# Altium schematic symbol library d203.SCHLIB: 175 symbols (part 3 of 6)
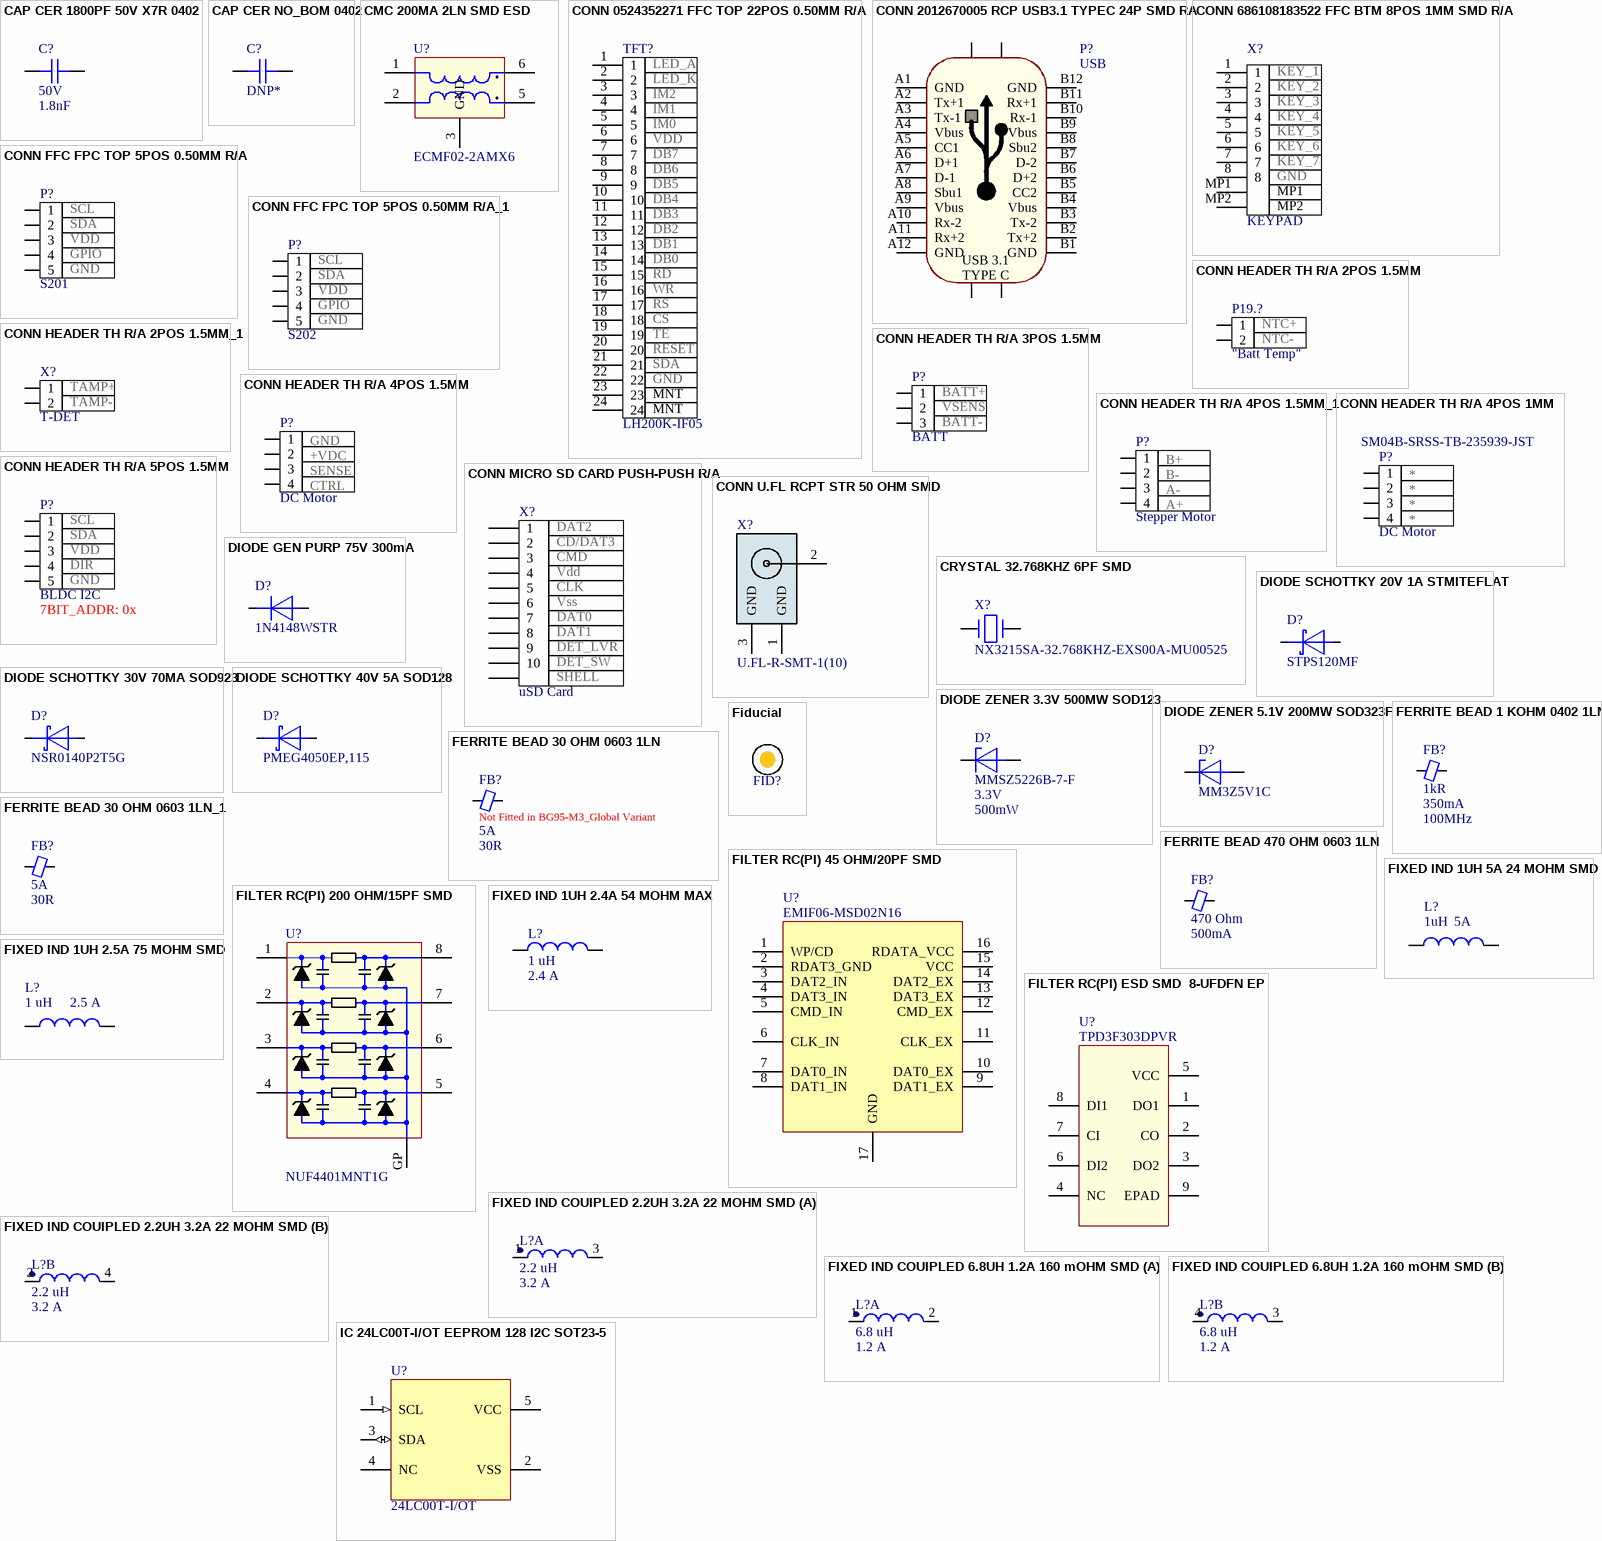
[diagram p7: symbols CAP CER 1800PF 50V X7R 0402 to IC 24LC00T-I/OT EEPROM 128 I2C SOT23-5]

## DIODE SCHOTTKY 40V 5A SOD128
designator D?, comment PMEG4050EP,115
Diode Schottky 40V 5A Surface Mount CFP5; Manufacturer: Nexperia; Type: Schottky Diode; Ir - Reverse Current: 300 uA; Qualification: AEC-Q101; Vf - Forward Voltage: 0.49 V; Configuration: Single; Ifsm - Forward Surge Current: 70 A; Supplier 1: Mouser; Manufacturer Part Number: PMEG4050EP,115; Stock 1: 39277; Pricing 1: 1=0.470, 10=0.346, 100=0.216, 1000=0.147, 3000=0.129, 9000=0.116, 24000=0.114, 45000=0.107, 99000=0.104 (USD); ComponentLink1URL: https://www.mouser.com/datasheet/2/916/PMEG4050EP-1320387.pdf; ComponentLink1Description: https://www.mouser.com/datasheet/2/916/PMEG4050EP-1320387.pdf; Supplier Part Number 1: 771-PMEG4050EP115; RoHS: RoHS Compliant; Category: Schottky Diodes & Rectifiers; Height: 1.1 mm; Length: 4 mm; Package / Case: SOD-128-2; Packaging: Cut Tape; Product: Schottky Diodes; Width: 2.7 mm; Brand: Nexperia; Mounting Style: SMD/SMT; If - Forward Current: 5 A; Maximum Operating Temperature: + 150 C; Minimum Operating Temperature: - 55 C; Product Type: Schottky Diodes & Rectifiers; Standard Pack Qty: 3000; Subcategory: Diodes & Rectifiers; RoHS - Mouser: Y; Minimum Order Quantity: 1; Reeling: True; Operating Temperature Range: + 150 C; Technology: Si; Vrrm - Repetitive Reverse Voltage: 40 V; Mount: Surface Mount
footprint SOD-128
pins: 1 K, 2 A

## DIODE ZENER 3.3V 500MW SOD123
designator D?, comment MMSZ5226B-7-F  Working Voltage: 3.3V  Power Rating: 500mW
Zener Diode ±5% Surface Mount SOD-123; Manufacturer: Diodes; Forward Voltage: 900mV; Impedance: 28R; Max Reverse Leakage Current: 25uA; Test Current: 20mA; Element Configuration: Single; Supplier 1: Digi-Key; Manufacturer Part Number: MMSZ5226B-7-F; Stock 1: 63613; Pricing 1: 1=0.19, 10=0.164, 100=0.063, 500=0.046, 1000=0.0309 (USD); Mount: Surface Mount; Number of Pins: 2; Weight: 0.000353oz; Min Operating Temperature: -65°C; Max Operating Temperature: 150°C; Packaging: Tape and Reel; Package Quantity: 3000; Tolerance: 5%; Max Power Dissipation: 500mW; Zener Voltage: 3.3V; Voltage Tolerance: 5%; Power Dissipation: 500mW; Length: 3.85mm; Height: 1.35mm; Width: 1.7mm; Radiation Hardening: No; Lead Free: Lead Free; ComponentLink1URL: http://www.diodes.com/datasheets/ds18010.pdf?src-supplier=Avnet+Europe; ComponentLink1Description: http://www.diodes.com/datasheets/ds18010.pdf?src-supplier=Avnet+Europe; Supplier Part Number 1: MMSZ5226B-FDICT-ND; Case/Package: SOD-123-2; Zener Current: 25uA; Max Reverse Current: 25uA; Termination: SMD/SMT; Voltage Rating (DC): 3.3V
footprint SOD-123
pins: 1 K, 2 A

## DIODE ZENER 5.1V 200MW SOD323F
designator D?, comment MM3Z5V1C
Zener Diode 5.1V 200mW ±5% Surface Mount SOD-323F; Manufacturer: ON Semiconductor / Fairchild; Impedance: 56R; Max Reverse Leakage Current: 1.8uA; Test Current: 5mA; Element Configuration: Single; Supplier 1: Digi-Key; Manufacturer Part Number: MM3Z5V1C; Stock 1: 27359; Pricing 1: 1=0.2, 10=0.167, 25=0.1396, 100=0.0682, 500=0.0569, 1000=0.0395 (USD); Mount: Surface Mount; Number of Pins: 2; Weight: 0.0276g; Min Operating Temperature: -65°C; Max Operating Temperature: 150°C; Packaging: Tape and Reel; Package Quantity: 1; Tolerance: 5%; Max Power Dissipation: 200mW; Zener Voltage: 5.1V; Voltage Tolerance: 5%; Power Dissipation: 200mW; Length: 1.3mm; Height: 1mm; Width: 1.7mm; Radiation Hardening: No; REACH SVHC: No SVHC; Lead Free: Lead Free; ComponentLink1URL: http://www.fairchildsemi.com/datasheets/MM/MM3Z10VC.pdf?src-supplier=Digi-Key; ComponentLink1Description: http://www.fairchildsemi.com/datasheets/MM/MM3Z10VC.pdf?src-supplier=Digi-Key; ComponentLink2URL: http://www.onsemi.com/pub/Collateral/MM3Z9V1C-D.pdf?src-supplier=Digi-Key; ComponentLink2Description: http://www.onsemi.com/pub/Collateral/MM3Z9V1C-D.pdf?src-supplier=Digi-Key; ComponentLink3URL: http://www.mouser.com/ds/2/149/MM3Z5V1C-195780.pdf?src-supplier=Mouser; ComponentLink3Description: http://www.mouser.com/ds/2/149/MM3Z5V1C-195780.pdf?src-supplier=Mouser; ComponentLink4URL: http://www.fairchildsemi.com/ds/MM/MM3Z9V1C.pdf?src-supplier=Avnet; ComponentLink4Description: http://www.fairchildsemi.com/ds/MM/MM3Z9V1C.pdf?src-supplier=Avnet; Supplier Part Number 1: MM3Z5V1CCT-ND
footprint SOD-323F
pins: 1 K, 2 A

## FERRITE BEAD 1 KOHM 0402 1LN
designator FB?  Impedance: 1kR  Max DC Current: 350mA  Test Frequency: 100MHz  (hidden comment: FERRITE BEAD 1 KOHM 0402 1LN)
1 kOhms @ 100MHz 1  Ferrite Bead 0402 (1005 Metric) 350mA 490mOhm; Manufacturer: Murata; Manufacturer Part Number: BLM15AX102SN1D; Material: Ferrite,Steel; Tolerance: 25%; Number of Lines: 1; DC Resistance (DCR): 490mR; Supplier 1: Digi-Key; Stock 1: 138597; Pricing 1: 1=0.11, 10=0.09, 25=0.0812, 50=0.0596, 100=0.0514, 250=0.0406, 500=0.0343, 1000=0.0289, 5000=0.0257 (USD); Case/Package: 0402; Number of Pins: 2; Case Code (Metric): 1005; Case Code (Imperial): 0402; Min Operating Temperature: -55°C; Max Operating Temperature: 125°C; Package Quantity: 1; Packaging: Tape and Reel; Current Rating: 350mA; Max Current Rating: 350mA; Termination: SMD/SMT; Number of Circuits: 1; Length: 1mm; Height: 0.5mm; Width: 0.5mm; Depth: 0.5mm; REACH SVHC: No SVHC; Lead Free: Lead Free; ComponentLink1URL: https://www.murata.com/en-us/products/productdata/8796740059166/ENFA0018.pdf?src-supplier=Digi-Key; ComponentLink1Description: https://www.murata.com/en-us/products/productdata/8796740059166/ENFA0018.pdf?src-supplier=Digi-Key; ComponentLink2URL: http://search.murata.co.jp/Ceramy/image/img/PDF/ENG/L0110S0100BLM15AX_SN.pdf?src-supplier=Future+Electronics; ComponentLink2Description: http://search.murata.co.jp/Ceramy/image/img/PDF/ENG/L0110S0100BLM15AX_SN.pdf?src-supplier=Future+Electronics; ComponentLink3URL: http://www.produktinfo.conrad.com/datenblaetter/1100000-1199999/001171674-da-01-en-CHIP_DROSSEL0402_1000R_350MA_1_0X0_5MM.pdf?src-supplier=Conrad; ComponentLink3Description: http://www.produktinfo.conrad.com/datenblaetter/1100000-1199999/001171674-da-01-en-CHIP_DROSSEL0402_1000R_350MA_1_0X0_5MM.pdf?src-supplier=Conrad; ComponentLink4URL: http://www.produktinfo.conrad.com/datenblaetter/1100000-1199999/001172166-da-01-en-DROSSEL_0402_1000R_31_0X0_5MM_10000ST.pdf?src-supplier=Conrad; ComponentLink4Description: http://www.produktinfo.conrad.com/datenblaetter/1100000-1199999/001172166-da-01-en-DROSSEL_0402_1000R_31_0X0_5MM_10000ST.pdf?src-supplier=Conrad; Supplier Part Number 1: 490-5442-1-ND; Mount: Surface Mount
footprint L_0402
footprint L0402
pins: 1, 2

## FERRITE BEAD 30 OHM 0603 1LN
designator FB?, comment Not Fitted in BG95-M3_Global Variant  Current Rating: 5A  Impedance: 30R
30 Ohms @ 100MHz 1 Power Line Ferrite Bead 0603 (1608 Metric) 5A 10mOhm; Manufacturer: TDK; Manufacturer Part Number: MPZ1608S300ATAH0; Tolerance: 25%; DC Resistance (DCR): 10mR; Supplier 1: Digi-Key; Stock 1: 93167; Pricing 1: 1=0.1, 10=0.079, 25=0.0716, 50=0.0644, 100=0.0472, 250=0.0343, 500=0.0315, 1000=0.0272 (USD); Case/Package: 0603; Case Code (Metric): 1608; Case Code (Imperial): 0603; Min Operating Temperature: -55°C; Max Operating Temperature: 125°C; Package Quantity: 4000; Packaging: Tape and Reel; Termination: SMD/SMT; Length: 0.063inch; Height: 0.6mm; Width: 0.031inch; Depth: 0.8mm; REACH SVHC: No SVHC; Lead Free: Lead Free; ComponentLink1URL: https://media.digikey.com/pdf/Data%20Sheets/TDK%20PDFs/MPZ_Series_Br.pdf?src-supplier=Digi-Key; ComponentLink1Description: https://media.digikey.com/pdf/Data%20Sheets/TDK%20PDFs/MPZ_Series_Br.pdf?src-supplier=Digi-Key; ComponentLink2URL: http://www.farnell.com/datasheets/1795297.pdf?src-supplier=Element14; ComponentLink2Description: http://www.farnell.com/datasheets/1795297.pdf?src-supplier=Element14; Supplier Part Number 1: 445-1562-6-ND; Max DC Current: 5A; Test Frequency: 100MHz; Revision: July-2002: Re-released for DXP Platform.; Mount: Surface Mount; Weight: 7.1E-05oz; Core Material: Ferrite
footprint 0603L
footprint L0603
pins: 1, 2

## FERRITE BEAD 30 OHM 0603 1LN_1
designator FB?, comment Current Rating: 5A  Impedance: 30R  (hidden comment: MPZ1608S300ATAH0)
30 Ohms @ 100MHz 1 Power Line Ferrite Bead 0603 (1608 Metric) 5A 10mOhm; Manufacturer: TDK; Tolerance: 25%; DC Resistance (DCR): 10mR; Supplier 1: Digi-Key; Manufacturer Part Number: MPZ1608S300ATAH0; Stock 1: 93167; Pricing 1: 1=0.1, 10=0.079, 25=0.0716, 50=0.0644, 100=0.0472, 250=0.0343, 500=0.0315, 1000=0.0272 (USD); Case/Package: 0603; Case Code (Metric): 1608; Case Code (Imperial): 0603; Min Operating Temperature: -55°C; Max Operating Temperature: 125°C; Package Quantity: 4000; Packaging: Tape and Reel; Termination: SMD/SMT; Length: 0.063inch; Height: 0.6mm; Width: 0.031inch; Depth: 0.8mm; REACH SVHC: No SVHC; Lead Free: Lead Free; ComponentLink1URL: https://media.digikey.com/pdf/Data%20Sheets/TDK%20PDFs/MPZ_Series_Br.pdf?src-supplier=Digi-Key; ComponentLink1Description: https://media.digikey.com/pdf/Data%20Sheets/TDK%20PDFs/MPZ_Series_Br.pdf?src-supplier=Digi-Key; ComponentLink2URL: http://www.farnell.com/datasheets/1795297.pdf?src-supplier=Element14; ComponentLink2Description: http://www.farnell.com/datasheets/1795297.pdf?src-supplier=Element14; Supplier Part Number 1: 445-1562-6-ND; Max DC Current: 5A; Test Frequency: 100MHz; Revision: July-2002: Re-released for DXP Platform.; Mount: Surface Mount; Weight: 7.1E-05oz; Core Material: Ferrite; ClassName: P109
footprint 0603L
footprint L0603
pins: 1, 2

## FERRITE BEAD 470 OHM 0603 1LN
designator FB?  Impedance: 470 Ohm  Current Rating: 500mA  (hidden comment: FERRITE BEAD 470 OHM 0603 1LN)
470 Ohms @ 100MHz 1  Ferrite Bead 0603 (1608 Metric) 500mA 210mOhm; Manufacturer: Murata; Manufacturer Part Number: BLM18EG471SN1D; Material: Ferrite,Steel; Tolerance: 25%; DC Resistance (DCR): 210mR; Number of Lines: 1; Supplier 1: Digi-Key; Stock 1: 4285; Pricing 1: 1=0.23, 10=0.175, 25=0.1452, 50=0.1252, 100=0.1126, 250=0.0951, 500=0.0851, 1000=0.0726 (USD); Case/Package: 0603; Number of Pins: 2; Weight: 7.1E-05oz; Core Material: Ferrite; Case Code (Metric): 1608; Case Code (Imperial): 0603; Min Operating Temperature: -55°C; Max Operating Temperature: 125°C; Max DC Current: 500mA; Resistance: 210mR; Package Quantity: 1; Packaging: Tape and Reel; Max Current Rating: 500mA; Termination: SMD/SMT; Test Frequency: 100MHz; DC Current: 500mA; Military Standard: Not; Frequency: 100MHz; Number of Circuits: 1; Length: 1.6mm; Height: 0.8mm; Width: 0.8mm; Depth: 0.8mm; Radiation Hardening: No; REACH SVHC: No SVHC; Lead Free: Lead Free; ComponentLink1URL: http://uk.rs-online.com/webdocs/11b5/0900766b811b5866.pdf?src-supplier=RSComponents; ComponentLink1Description: http://uk.rs-online.com/webdocs/11b5/0900766b811b5866.pdf?src-supplier=RSComponents; ComponentLink2URL: http://www.farnell.com/datasheets/5169.pdf?src-supplier=Element14; ComponentLink2Description: http://www.farnell.com/datasheets/5169.pdf?src-supplier=Element14; ComponentLink3URL: https://www.murata.com/en-global/products/productdata/8796733767710/S0580E.pdf?src-supplier=Digi-Key; ComponentLink3Description: https://www.murata.com/en-global/products/productdata/8796733767710/S0580E.pdf?src-supplier=Digi-Key; ComponentLink4URL: https://www.distrelec.biz/Web/Downloads/_t/ds/blm-series_eng_tds.pdf?mime=application%2Fpdf&src-supplier=Distrelec; ComponentLink4Description: https://www.distrelec.biz/Web/Downloads/_t/ds/blm-series_eng_tds.pdf?mime=application%2Fpdf&src-supplier=Distrelec; ComponentLink5URL: https://www.verical.com/server-webapp/html/getDatasheet?partID=228865&src-supplier=Verical; ComponentLink5Description: https://www.verical.com/server-webapp/html/getDatasheet?partID=228865&src-supplier=Verical; ComponentLink6URL: http://search.murata.co.jp/Ceramy/image/img/PDF/ENG/L0110S0101BLM18E.pdf?src-supplier=Avnet; ComponentLink6Description: http://search.murata.co.jp/Ceramy/image/img/PDF/ENG/L0110S0101BLM18E.pdf?src-supplier=Avnet; ComponentLink7URL: http://www.produktinfo.conrad.com/datenblaetter/1100000-1199999/001171700-da-01-en-CHIP_DROSSEL0603_470R_500MA_1_6X0_8MM.pdf?src-supplier=Conrad; ComponentLink7Description: http://www.produktinfo.conrad.com/datenblaetter/1100000-1199999/001171700-da-01-en-CHIP_DROSSEL0603_470R_500MA_1_6X0_8MM.pdf?src-supplier=Conrad; ComponentLink8URL: http://www.produktinfo.conrad.com/datenblaetter/1100000-1199999/001172269-da-01-en-DROSSEL_0603_470R_1_6X0_8MM_4000ST.pdf?src-supplier=Conrad; ComponentLink8Description: http://www.produktinfo.conrad.com/datenblaetter/1100000-1199999/001172269-da-01-en-DROSSEL_0603_470R_1_6X0_8MM_4000ST.pdf?src-supplier=Conrad; Supplier Part Number 1: 490-3993-6-ND; Mount: Surface Mount
footprint L0603
pins: 1, 2

## Fiducial
designator FID?, comment N/A  (value not drawn)  (no BOM)
Fiducial mark.  There is nothing to buy or mount.; ClassName: FiducialMark; CompType: Fiducial; Manufacturer: N/A; MountType: N/A; PackageReference: Fiducial; Manufacturer Part Number: N/A
footprint Fiducial
footprint FIDUCIAL_SMALL

## FILTER RC(PI) 45 OHM/20PF SMD
designator U?, comment EMIF06-MSD02N16
RC (Pi) EMI Filter 2nd Order Low Pass 6 Channel R = 45Ohms, C = 20pF (Total)  16-UFDFN Exposed Pad; Manufacturer: STMicroelectronics; Number of Channels: 6; ESD Protection: Yes; Breakdown Voltage: 8V; Supplier 1: Digi-Key; Manufacturer Part Number: EMIF06-MSD02N16; Stock 1: 3881; Pricing 1: 1=0.95, 10=0.904, 25=0.8752, 50=0.7148, 100=0.6418, 250=0.5834, 500=0.5543, 1000=0.4959 (USD); Mount: Surface Mount; Case/Package: QFN; Number of Pins: 16; Contact Plating: Gold; Min Operating Temperature: -30°C; Max Operating Temperature: 85°C; Termination: Flat; Packaging: Tape and Reel; Package Quantity: 1; Capacitance: 20pF; Max Breakdown Voltage: 8V; Length: 3.55mm; Height: 0.022inch; Width: 0.047inch; Depth: 1.25mm; Radiation Hardening: No; Lead Free: Lead Free; REACH SVHC: No SVHC; ComponentLink1URL: http://www.st.com/content/ccc/resource/technical/document/datasheet/a7/86/d3/98/2c/7f/4b/d2/CD00217829.pdf/files/CD00217829.pdf/jcr:content/translations/en.CD00217829.pdf?src-supplier=Digi-Key; ComponentLink1Description: http://www.st.com/content/ccc/resource/technical/document/datasheet/a7/86/d3/98/2c/7f/4b/d2/CD00217829.pdf/files/CD00217829.pdf/jcr:content/translations/en.CD00217829.pdf?src-supplier=Digi-Key; ComponentLink2URL: https://www.verical.com/server-webapp/html/getDatasheet?partID=558558&src-supplier=Verical; ComponentLink2Description: https://www.verical.com/server-webapp/html/getDatasheet?partID=558558&src-supplier=Verical; ComponentLink3URL: http://www.st.com/web/en/resource/technical/document/datasheet/CD00217829.pdf?src-supplier=Mouser; ComponentLink3Description: http://www.st.com/web/en/resource/technical/document/datasheet/CD00217829.pdf?src-supplier=Mouser; Supplier Part Number 1: 497-8751-1-ND
footprint QFN 3.5x1.2-16L (Micro QFN 3.5x1.2-16L footprint)
pins: 1 WP/CD, 2 RDAT3_GND, 3 DAT2_IN, 4 DAT3_IN, 5 CMD_IN, 6 CLK_IN, 7 DAT0_IN, 8 DAT1_IN, 9 DAT1_EX, 10 DAT0_EX, 11 CLK_EX, 12 CMD_EX, 13 DAT3_EX, 14 DAT2_EX, 15 VCC (power), 16 RDATA_VCC (power), 17 GND (power)

## FILTER RC(PI) 200 OHM/15PF SMD
designator U?, comment NUF4401MNT1G
EMI filter w/ ESD prot. NUF4401MN 12mm r; Manufacturer: ON Semiconductor; Number of Channels: 4; Frequency: 2.4GHz; Capacitance: 15pF; Number of Elements: 8; Resistance: 200R; Attenuation Value: 35dB; ESD Protection: Yes; Max DC Current: 100nA; DC Resistance (DCR): 230R; Test Frequency: 125MHz; Shielding: Unshielded; Supplier 1: Digi-Key; Manufacturer Part Number: NUF4401MNT1G; Stock 1: 2896; Pricing 1: 1=0.49, 10=0.45, 25=0.4296, 50=0.4158, 100=0.4019, 250=0.3812, 500=0.3188, 1000=0.2474 (USD); Case/Package: DFN; Min Operating Temperature: -40°C; Max Operating Temperature: 85°C; Packaging: Tape and Reel; ComponentLink1URL: http://www.onsemi.com/pub/Collateral/NUF4401MN-D.PDF?src-supplier=Digi-Key; ComponentLink1Description: http://www.onsemi.com/pub/Collateral/NUF4401MN-D.PDF?src-supplier=Digi-Key; ComponentLink2URL: http://www.onsemi.com/pub/Collateral/NUF4401MN-D.PDF?src-supplier=Avnet; ComponentLink2Description: http://www.onsemi.com/pub/Collateral/NUF4401MN-D.PDF?src-supplier=Avnet; ComponentLink3URL: http://www.onsemi.com/pub_link/Collateral/NUF4401MN-D.PDF?src-supplier=Avnet+Europe; ComponentLink3Description: http://www.onsemi.com/pub_link/Collateral/NUF4401MN-D.PDF?src-supplier=Avnet+Europe; ComponentLink4URL: http://www.mouser.com/ds/2/308/NUF4401MN-D-100381.pdf?src-supplier=Mouser; ComponentLink4Description: http://www.mouser.com/ds/2/308/NUF4401MN-D-100381.pdf?src-supplier=Mouser; Supplier Part Number 1: 488-NUF4401MNT1GCT-ND; Number of Pins: 8; Contact Plating: Tin,Matte; Package Quantity: 1; Circuit Type: Filter; Termination: Flat; Number of Lines: 4; Length: 2mm; Height: 1mm; Width: 0.079inch; Depth: 2mm; Radiation Hardening: No; Lead Free: Lead Free; Halogen Free: Halogen Free; Mount: Surface Mount
footprint DFN8 (DFN8 2x2, 0.5P CASE 506AQ)
pins: 1 INP1, 2 INP2, 3 INP3, 4 INP4, 5 OUT4, 6 OUT3, 7 OUT2, 8 OUT1, GP GND

## FILTER RC(PI) ESD SMD  8-UFDFN EP
designator U?, comment TPD3F303DPVR
RC (Pi) EMI Filter 2nd Order Low Pass 3 Channel R = 47Ohms, 100Ohms, C = 20pF  8-UFDFN Exposed Pad; Manufacturer: Texas Instruments; Number of Channels: 3; Frequency: 308MHz; ESD Protection: Yes; Operating Supply Voltage: 5.5V; Clamping Voltage: 10V; Supplier 1: Digi-Key; Manufacturer Part Number: TPD3F303DPVR; Stock 1: 4896; Pricing 1: 1=0.85, 10=0.812, 25=0.7856, 50=0.6414, 100=0.576, 250=0.5236, 500=0.4974, 1000=0.4451 (USD); Case/Package: SMD/SMT; Min Operating Temperature: -40°C; Max Operating Temperature: 85°C; Packaging: Tape and Reel; ComponentLink1URL: http://www.ti.com/lit/ds/symlink/tpd3f303.pdf?src-supplier=Digi-Key; ComponentLink1Description: http://www.ti.com/lit/ds/symlink/tpd3f303.pdf?src-supplier=Digi-Key; ComponentLink2URL: http://focus.ti.com/lit/ds/symlink/tpd3f303.pdf?src-supplier=Avnet+Europe; ComponentLink2Description: http://focus.ti.com/lit/ds/symlink/tpd3f303.pdf?src-supplier=Avnet+Europe; ComponentLink3URL: https://www.verical.com/server-webapp/html/getDatasheet?partID=302817&src-supplier=Verical; ComponentLink3Description: https://www.verical.com/server-webapp/html/getDatasheet?partID=302817&src-supplier=Verical; ComponentLink4URL: http://www.farnell.com/datasheets/1558442.pdf?src-supplier=Element14; ComponentLink4Description: http://www.farnell.com/datasheets/1558442.pdf?src-supplier=Element14; Supplier Part Number 1: 296-28299-1-ND; Number of Pins: 8; Contact Plating: Gold; Package Quantity: 1; Capacitance: 20pF; Termination: Flat; Length: 2.2mm; Height: 0.026inch; Width: 0.063inch; Depth: 1.7mm; Radiation Hardening: No; Lead Free: Lead Free; REACH SVHC: No SVHC; Mount: Surface Mount
footprint DPV8_1P7X0P4
pins: 1 DO1, 2 CO, 3 DO2, 4 NC, 5 VCC (power), 6 DI2, 7 CI, 8 DI1, 9 EPAD

## FIXED IND 1UH 2.4A 54 MOHM MAX
designator L?  Inductance: 1 uH  Maximum DC Current: 2.4 A  (hidden comment: FIXED IND 1UH 2.4A 54 MOHM MAX)
1µH Semi-Shielded Wirewound Inductor 2.4A 54mOhm Max Nonstandard; Manufacturer: Wurth Elektronik; Manufacturer Part Number: 74405031010; Maximum DC Resistance: 54 mOhms; Self Resonant Frequency: 66 MHz; Tolerance: 20 %; Saturation Current: 5.4 A; Test Frequency: 1 MHz; Supplier 1: Mouser; RoHS: RoHS Compliant; Category: Fixed Inductors; Stock 1: 2000; Pricing 1: 1=0.730, 10=0.721, 50=0.601, 100=0.457, 1000=0.397, 2000=0.385 (USD); Application: Power; Height: 1.2 mm; Length: 3 mm; Package / Case: 3 mm x 3 mm; Packaging: Cut Tape; Product: Fixed Inductors; Series: WE-LQSH; Shielding: Shielded; Termination Style: SMD/SMT; Width: 3 mm; Brand: Wurth Elektronik; Mounting Style: PCB Mount; Maximum Operating Temperature: + 125 C; Minimum Operating Temperature: - 40 C; Product Type: Fixed Inductors; Standard Pack Qty: 2000; Subcategory: Inductors, Chokes & Coils; Termination: -; RoHS - Mouser: Y; Minimum Order Quantity: 1; Reeling: True; ComponentLink1URL: https://www.mouser.com/datasheet/2/445/74405031010-1720907.pdf; ComponentLink1Description: https://www.mouser.com/datasheet/2/445/74405031010-1720907.pdf; Supplier 2: Digi-Key; Supplier Part Number 1: 710-74405031010; Supplier Part Number 2: 732-10780-1-ND; Mount: Surface Mount
footprint IND_WE_LQSH_3012 (Footprint not found)
pins: 1, 2

## FIXED IND 1UH 2.5A 75 MOHM SMD
designator L?  Inductance: 1 uH  Maximum DC Current: 2.5 A  (hidden comment: FIXED IND 1UH 2.5A 75 MOHM SMD)
1µH Shielded Molded Inductor 2.5A 75mOhm Max 1008 (2520 Metric); Manufacturer: Wurth Elektronik; Manufacturer Part Number: 74438323010; Tolerance: 20 %; Self Resonant Frequency: 80 MHz; Test Frequency: 100 kHz; Type: SMD Inductor; ComponentLink1URL: https://www.mouser.com/datasheet/2/445/74438323010-1721873.pdf; ComponentLink1Description: https://www.mouser.com/datasheet/2/445/74438323010-1721873.pdf; Supplier 1: Mouser; Stock 1: 4771; Pricing 1: 1=1.13, 10=1.10, 50=1.03, 100=0.961, 500=0.887, 1000=0.813, 3000=0.739 (USD); Packaging: Cut Tape; Shielding: Shielded; Termination: -; Length: 2.5 mm; Height: 1 mm; Width: 2 mm; Supplier Part Number 1: 710-74438323010; RoHS: RoHS Compliant; Category: Fixed Inductors; Application: Power; Maximum DC Resistance: 75 mOhms; Package / Case: 1008 (2520 metric); Product: Power Inductors; Series: WE-MAPI; Termination Style: SMD/SMT; Brand: Wurth Elektronik; Mounting Style: PCB Mount; Case Code - in: 1008; Case Code - mm: 2520; Maximum Operating Temperature: + 125 C; Minimum Operating Temperature: - 40 C; Product Type: Fixed Inductors; Standard Pack Qty: 3000; Subcategory: Inductors, Chokes & Coils; RoHS - Mouser: Y; Minimum Order Quantity: 1; Reeling: True; Mount: Surface Mount
footprint 74438323010 (1µH Shielded Molded Inductor 2.5A 75mOhm Max 1008 (2520 Metric))
pins: 1, 2

## FIXED IND 1UH 5A 24 MOHM SMD
designator L?  Inductance: 1uH  Current Rating: 5A  (hidden comment: FIXED IND 1UH 5A 24 MOHM SMD)
1µH Shielded Molded Inductor 5A 24mOhm Max Nonstandard; Manufacturer: Vishay Dale; Manufacturer Part Number: IHLP1212BZER1R0M11; Core Material: Metal,Composite; Tolerance: 20%; DC Resistance (DCR): 24mR; Self Resonant Frequency: 75MHz; Saturation Current: 4.5A; Test Frequency: 100kHz; Supplier 1: Digi-Key; Stock 1: 70286; Pricing 1: 1=1.39, 10=1.287, 25=1.188, 50=0.99, 100=0.9306, 250=0.8316, 500=0.7128, 1000=0.6336 (USD); Mount: Surface Mount; Case/Package: 1212; Number of Pins: 2; Case Code (Metric): 3630; Case Code (Imperial): 1212; Contact Plating: Tin; Min Operating Temperature: -55°C; Max Operating Temperature: 125°C; Shielding: Shielded; Packaging: Tape and Reel; Package Quantity: 3000; Inductance Tolerance: 20%; Max DC Current: 5A; Termination: SMD/SMT; RMS Current (Irms): 5A; Military Standard: Not; Length: 3.6mm; Height: 2mm; Depth: 3.2mm; Width: 0.118inch; Height - Seated (Max): 0.079inch; Radiation Hardening: No; REACH SVHC: Unknown; Lead Free: Lead Free; ComponentLink1URL: http://www.mouser.com/ds/2/427/lp12bz11-244380.pdf?src-supplier=Mouser; ComponentLink1Description: http://www.mouser.com/ds/2/427/lp12bz11-244380.pdf?src-supplier=Mouser; ComponentLink2URL: http://www.vishay.com/docs/34289/lp12bz11.pdf?src-supplier=Digi-Key; ComponentLink2Description: http://www.vishay.com/docs/34289/lp12bz11.pdf?src-supplier=Digi-Key; ComponentLink3URL: http://www.vishay.com/docs/34289/lp12bz11.pdf?src-supplier=Avnet; ComponentLink3Description: http://www.vishay.com/docs/34289/lp12bz11.pdf?src-supplier=Avnet; ComponentLink4URL: http://www.farnell.com/datasheets/652599.pdf?src-supplier=Element14; ComponentLink4Description: http://www.farnell.com/datasheets/652599.pdf?src-supplier=Element14; ComponentLink5URL: http://www.vishay.com/docs/34289/lp12bz11.pdf?src-supplier=Avnet+Europe; ComponentLink5Description: http://www.vishay.com/docs/34289/lp12bz11.pdf?src-supplier=Avnet+Europe; ComponentLink6URL: https://www.verical.com/server-webapp/html/getDatasheet?partID=180380&src-supplier=Verical; ComponentLink6Description: https://www.verical.com/server-webapp/html/getDatasheet?partID=180380&src-supplier=Verical; Supplier Part Number 1: 541-1319-1-ND
footprint IND_IHLP-1212B00 (Footprint not found)
pins: 1, 2

## FIXED IND COUIPLED 2.2UH 3.2A 22 MOHM SMD
designator L?  Inductance: 2.2 uH  Maximum DC Current: 3.2 A  (hidden comment: FIXED IND COUIPLED 2.2UH 3.2A 22 MOHM SMD)
2.2µH Shielded Coupled Inductors 3.2A 22mOhm Max 4040 (10.3x10.3 Metric); Manufacturer: Coilcraft; Manufacturer Part Number: MSD1048H-222; Tolerance: 30 %; Self Resonant Frequency: 55 MHz; Test Frequency: 100 kHz; Type: SMD Inductor; Packaging: Cut Tape; Shielding: Shielded; ComponentLink1URL: https://www.coilcraft.com/getmedia/492eebb2-11bb-49ba-b07b-44c830c73f93/msd1048h.pdf; ComponentLink1Description: https://www.coilcraft.com/en-us/products/power/coupled-inductors/1-1-shielded-coupled/msd_h/msd1048h/#; Category: Fixed Coupled Inductors; Application: Power; Height: 4.8 mm; Length: 10.3 mm; Maximum DC Resistance: 22 mOhms; Product: Power Inductors; Series: MSD1048H; Termination Style: SMD/SMT; Width: 10.3 mm; Brand: Coilcraft; Mounting Style: PCB Mount; Maximum Operating Temperature: + 125 C; Minimum Operating Temperature: - 40 C; Product Type: Fixed Coupled Inductors; Subcategory: Inductors, Chokes & Coils; Termination: -; Minimum Order Quantity: 1; Reeling: True; Mount: Surface Mount
footprint IND_MSD1048H (Footprint not found)
part A pins: 1, 3
part B pins: 2, 4

## FIXED IND COUIPLED 6.8UH 1.2A 160 mOHM SMD
designator L?  Inductance: 6.8 uH  Maximum DC Current: 1.2 A  (hidden comment: FIXED IND COUIPLED 6.8UH 1.2A 160 mOHM SMD)
6.8µH Shielded Coupled Inductors 1.2A 160mOhm Max 1919 (4.8x4.8 Metric); Manufacturer: Coilcraft; Manufacturer Part Number: LPD5030-682MR; Tolerance: 30 %; Self Resonant Frequency: 40 MHz; Test Frequency: 100 kHz; Type: SMD Inductor; Packaging: Cut Tape; Shielding: Shielded; Termination: -; Length: 4.8 mm; Height: 2.9 mm; Width: 4.8 mm; ComponentLink1URL: https://www.coilcraft.com/getmedia/492eebb2-11bb-49ba-b07b-44c830c73f93/msd1048h.pdf; ComponentLink1Description: https://www.coilcraft.com/en-us/products/power/coupled-inductors/1-1-shielded-coupled/msd_h/msd1048h/#; Category: Fixed Coupled Inductors; Application: Power; Maximum DC Resistance: 160 mOhms; Product: Power Inductors; Series: LPD5030; Termination Style: SMD/SMT; Brand: Coilcraft; Mounting Style: PCB Mount; Maximum Operating Temperature: + 125 C; Minimum Operating Temperature: - 40 C; Product Type: Fixed Coupled Inductors; Subcategory: Inductors, Chokes & Coils; Minimum Order Quantity: 1; Reeling: True; Mount: Surface Mount
footprint IND_LPD5030 (Footprint not found)
part A pins: 1, 2
part B pins: 3, 4

## IC 24LC00T-I/OT EEPROM 128 I2C SOT23-5
designator U?, comment 24LC00T-I/OT
EEPROM Memory IC 128b (16 x 8) I²C 400kHz 3500ns SOT-23-5; Manufacturer: Microchip; Min Supply Voltage: 2.5V; Max Supply Voltage: 5.5V; Interface: I2C,2-Wire,Serial; Access Time: 900ns; Nominal Supply Current: 2mA; Supplier 1: Digi-Key; Manufacturer Part Number: 24LC00T-I/OT; Stock 1: 29747; Pricing 1: 1=0.19, 100=0.1785 (USD); Mount: Surface Mount; Case/Package: SOT-23; Number of Pins: 5; Contact Plating: Tin,Matte; Min Operating Temperature: -40°C; Max Operating Temperature: 85°C; Density: 128b; Frequency: 400kHz; Packaging: Tape and Reel; Package Quantity: 3000; Memory Type: EEPROM; Memory Size: 128b; Max Frequency: 400kHz; Length: 3.1mm; Height: 1.3mm; Width: 1.8mm; Radiation Hardening: No; REACH SVHC: No SVHC; Lead Free: Lead Free; ComponentLink1URL: http://www.farnell.com/datasheets/1669367.pdf?src-supplier=Element14; ComponentLink1Description: http://www.farnell.com/datasheets/1669367.pdf?src-supplier=Element14; ComponentLink2URL: http://ww1.microchip.com/downloads/en/DeviceDoc/21178H.pdf?src-supplier=Avnet+Europe; ComponentLink2Description: http://ww1.microchip.com/downloads/en/DeviceDoc/21178H.pdf?src-supplier=Avnet+Europe; ComponentLink3URL: http://www.microchip.com/mymicrochip/filehandler.aspx?ddocname=en011773&src-supplier=Future+Electronics; ComponentLink3Description: http://www.microchip.com/mymicrochip/filehandler.aspx?ddocname=en011773&src-supplier=Future+Electronics; ComponentLink4URL: https://www.distrelec.biz/Web/Downloads/_t/ds/24AA00_24LC00_24C00_eng_tds.pdf?mime=application%2Fpdf&src-supplier=Distrelec; ComponentLink4Description: https://www.distrelec.biz/Web/Downloads/_t/ds/24AA00_24LC00_24C00_eng_tds.pdf?mime=application%2Fpdf&src-supplier=Distrelec; ComponentLink5URL: https://www.verical.com/server-webapp/html/getDatasheet?partID=790518&src-supplier=Verical; ComponentLink5Description: https://www.verical.com/server-webapp/html/getDatasheet?partID=790518&src-supplier=Verical; ComponentLink6URL: http://www.produktinfo.conrad.com/datenblaetter/1000000-1099999/001085284-da-01-en-IC_EEPROM_128B_24LC00T_I_OT_SOT_23_5_MCP.pdf?src-supplier=Conrad; ComponentLink6Description: http://www.produktinfo.conrad.com/datenblaetter/1000000-1099999/001085284-da-01-en-IC_EEPROM_128B_24LC00T_I_OT_SOT_23_5_MCP.pdf?src-supplier=Conrad; Supplier Part Number 1: 24LC00T-I/OTCT-ND
footprint SOT-23-5
pins: 1 SCL (in), 2 VSS (power), 3 SDA (io), 4 NC, 5 VCC (power)

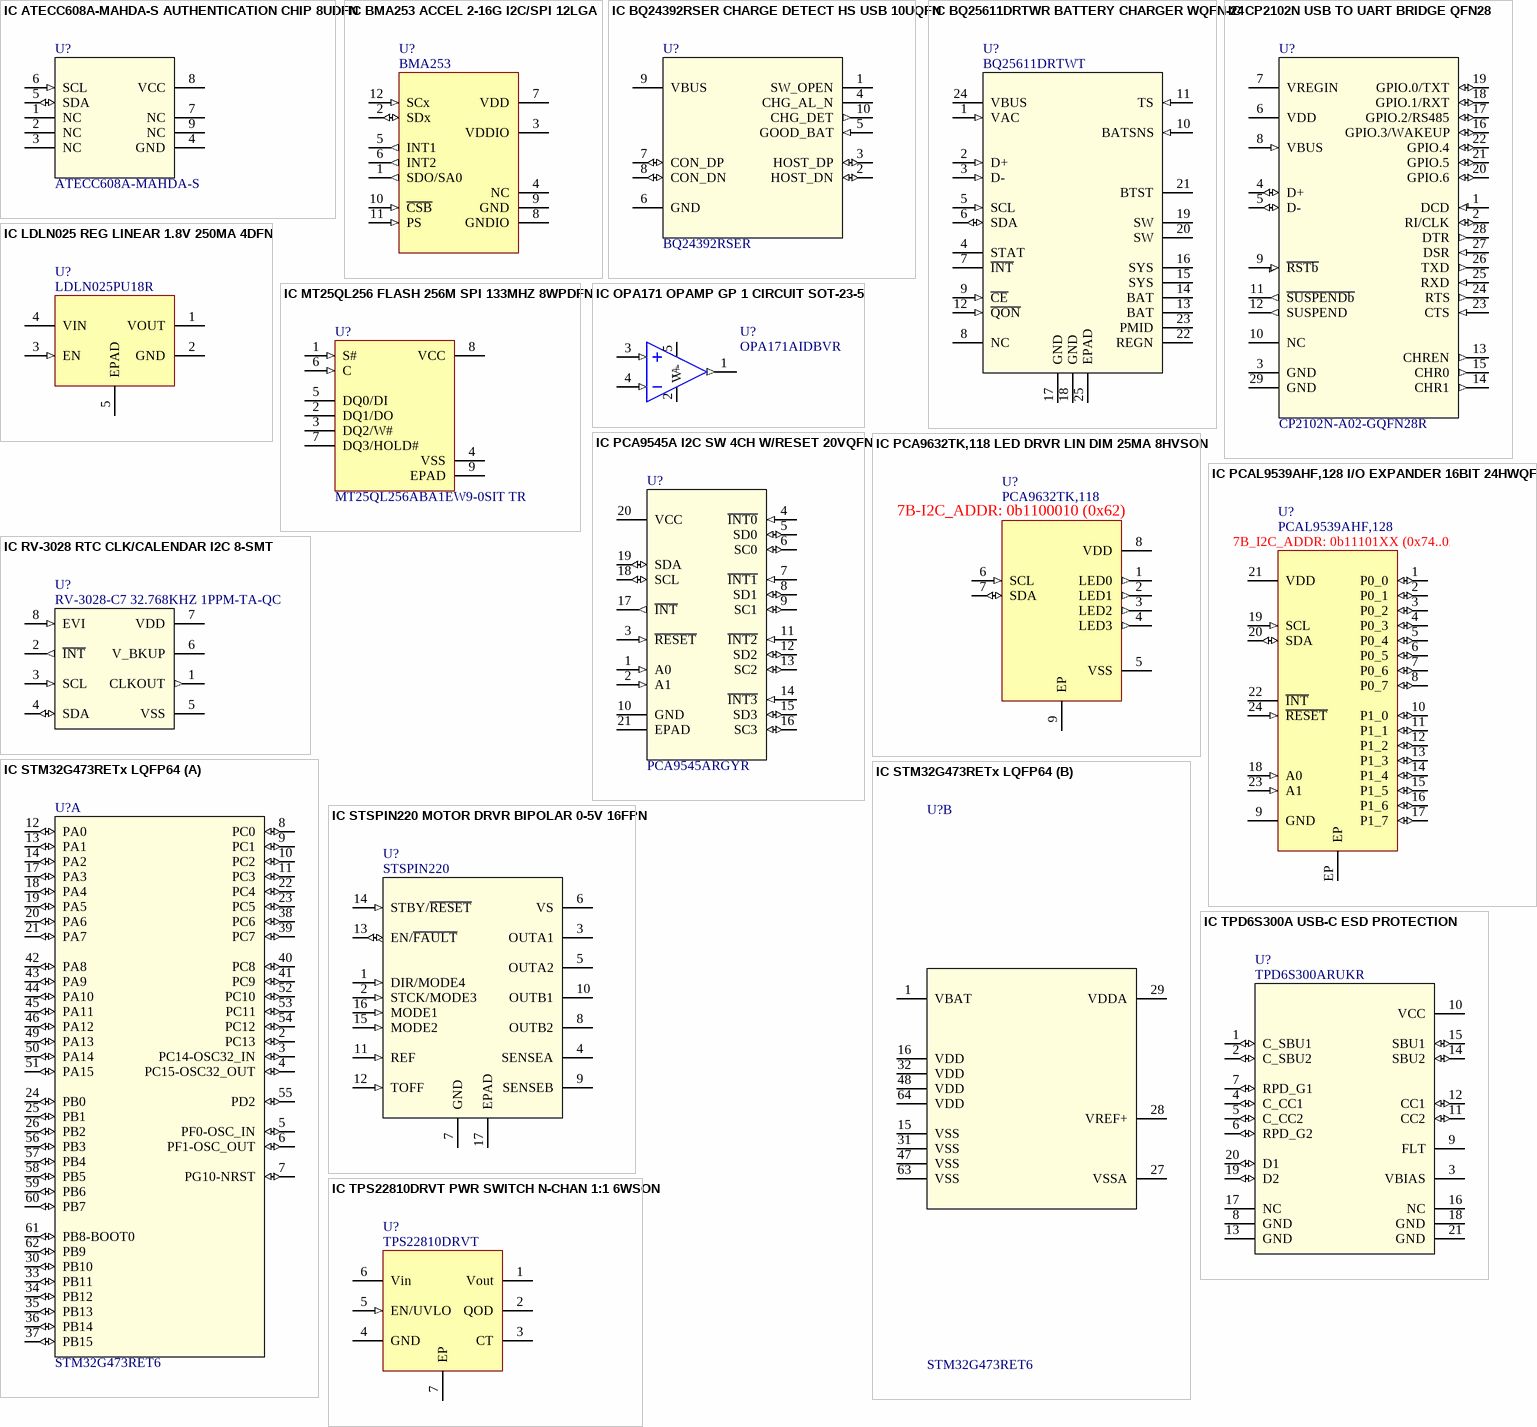
[diagram p2: symbols IC ATECC608A-MAHDA-S AUTHENTICATION CHIP 8UDFN to IC TPS22810DRVT PWR SWITCH N-CHAN 1:1 6WSON]

## IC ATECC608A-MAHDA-S AUTHENTICATION CHIP 8UDFN
designator U?, comment ATECC608A-MAHDA-S
Authentication Chip 8-UDFN (2x3); Manufacturer: Microchip; Supplier 1: Digi-Key; Manufacturer Part Number: ATECC608A-MAHDA-S; Stock 1: 2773; Pricing 1: 1=0.75, 25=0.7244, 100=0.6563 (USD); Mount: Surface Mount; Packaging: Cut Tape; ComponentLink1URL: http://ww1.microchip.com/downloads/en/DeviceDoc/40001977A.pdf?src-supplier=Farnell; ComponentLink1Description: http://ww1.microchip.com/downloads/en/DeviceDoc/40001977A.pdf?src-supplier=Farnell; ComponentLink2URL: http://ww1.microchip.com/downloads/en/DeviceDoc/40001977A.pdf?src-supplier=Newark; ComponentLink2Description: http://ww1.microchip.com/downloads/en/DeviceDoc/40001977A.pdf?src-supplier=Newark; ComponentLink3URL: http://ww1.microchip.com/downloads/en/DeviceDoc/40001977A.pdf?src-supplier=Element14; ComponentLink3Description: http://ww1.microchip.com/downloads/en/DeviceDoc/40001977A.pdf?src-supplier=Element14; ComponentLink4URL: http://www.microchip.com/mymicrochip/filehandler.aspx?ddocname=en601565&src-supplier=Digi-Key; ComponentLink4Description: http://www.microchip.com/mymicrochip/filehandler.aspx?ddocname=en601565&src-supplier=Digi-Key; Supplier Part Number 1: ATECC608A-MAHDA-SCT-ND
footprint UDFN8_2x3MC_MCH (8-UFDFN Exposed Pad)
pins: 1 NC, 2 NC, 3 NC, 4 GND (power), 5 SDA (io), 6 SCL (in), 7 NC, 8 VCC (power), 9 NC

## IC BMA253 ACCEL 2-16G I2C/SPI 12LGA
designator U?, comment BMA253
Accelerometer X, Y, Z Axis ±2g, 4g, 8g, 16g 8Hz ~ 1kHz 12-LGA (2x2); Manufacturer: Bosch Sensortec; Output Type: SPI,I2C; Axis: X, Y, Z; Supplier 1: Digi-Key; Manufacturer Part Number: BMA253; Stock 1: 49895; Pricing 1: 1=1.73, 5=1.666, 10=1.353, 25=1.1656, 50=1.0094, 100=0.9158, 500=0.7701, 1000=0.6868, 5000=0.63 (USD); Mount: Surface Mount; Case/Package: LGA; Number of Pins: 12; Min Operating Temperature: -40°C; Max Operating Temperature: 85°C; Packaging: Tape and Reel; ComponentLink1URL: https://ae-bst.resource.bosch.com/media/_tech/media/application_notes/BST-MAS-HS000-05.pdf?src-supplier=Digi-Key; ComponentLink1Description: https://ae-bst.resource.bosch.com/media/_tech/media/application_notes/BST-MAS-HS000-05.pdf?src-supplier=Digi-Key; ComponentLink2URL: https://ae-bst.resource.bosch.com/media/_tech/media/application_notes/BST-MAS-HS000.pdf?src-supplier=Digi-Key; ComponentLink2Description: https://ae-bst.resource.bosch.com/media/_tech/media/application_notes/BST-MAS-HS000.pdf?src-supplier=Digi-Key; Supplier Part Number 1: 828-1071-1-ND; Bandwidth: 8Hz
footprint LGA12C50P4X4_200X200X100 (LGA, 12-Leads, Body 2.00x2.00mmx1.00mm, Pitch 0.50mm)
pins: 1 SDO/SA0 (out), 2 SDx (io), 3 VDDIO (power), 4 NC, 5 INT1 (out), 6 INT2 (out), 7 VDD (power), 8 GNDIO (power), 9 GND (power), 10 ~{CSB} (in), 11 PS (in), 12 SCx (in)

## IC BQ24392RSER CHARGE DETECT HS USB 10UQFN
designator U?, comment BQ24392RSER
Battery Multi-Function Controller IC  10-UQFN (2.0x1.5); Manufacturer: Texas Instruments; Operating Supply Voltage: 5V; Interface: USB; Bandwidth: 920MHz; Max Supply Voltage: 5.25V; Min Supply Voltage: 4.75V; On-State Resistance: 8R; Number of Channels: 2; Supplier 1: Digi-Key; Manufacturer Part Number: BQ24392RSER; Stock 1: 7267; Pricing 1: 1=0.89, 10=0.797, 25=0.756, 100=0.5805, 250=0.513, 500=0.486, 1000=0.378 (USD); Packaging: Tape and Reel; ComponentLink1URL: http://www.ti.com/general/docs/lit/getliterature.tsp?genericPartNumber=BQ24392&&fileType=pdf&src-supplier=Avnet; ComponentLink1Description: http://www.ti.com/general/docs/lit/getliterature.tsp?genericPartNumber=BQ24392&&fileType=pdf&src-supplier=Avnet; Supplier Part Number 1: 296-37689-1-ND; Mount: Surface Mount; Number of Pins: 10; Weight: 0.000353oz; Contact Plating: Gold; Min Operating Temperature: -40°C; Max Operating Temperature: 85°C; Package Quantity: 3000; Length: 1.5mm; Radiation Hardening: No; REACH SVHC: No SVHC; Lead Free: Lead Free; ComponentLink2URL: https://www.verical.com/server-webapp/html/getDatasheet?partID=543706&src-supplier=Verical; ComponentLink2Description: https://www.verical.com/server-webapp/html/getDatasheet?partID=543706&src-supplier=Verical; ComponentLink3URL: http://www.ti.com/lit/ds/slis146a/slis146a.pdf?src-supplier=Avnet+Europe; ComponentLink3Description: http://www.ti.com/lit/ds/slis146a/slis146a.pdf?src-supplier=Avnet+Europe; ComponentLink4URL: http://www.farnell.com/datasheets/2020408.pdf?src-supplier=Element14; ComponentLink4Description: http://www.farnell.com/datasheets/2020408.pdf?src-supplier=Element14; ComponentLink5URL: http://www.ti.com/lit/gpn/bq24392?src-supplier=Mouser; ComponentLink5Description: http://www.ti.com/lit/gpn/bq24392?src-supplier=Mouser
footprint RSE10_TEX
pins: 1 SW_OPEN (oc), 2 HOST_DN (io), 3 HOST_DP (io), 4 CHG_AL_N (oc), 5 GOOD_BAT (in), 6 GND (power), 7 CON_DP (io), 8 CON_DN (io), 9 VBUS (power), 10 CHG_DET (out)

## IC BQ25611DRTWR BATTERY CHARGER WQFN-24
designator U?, comment BQ25611DRTWT
Charger IC Lithium Ion/Polymer 24-WQFN (4x4); Manufacturer: Texas Instruments; Product Status: New Product; Supplier 1: Mouser; Manufacturer Part Number: BQ25611DRTWT; RoHS: RoHS Compliant; Category: Battery Management; Stock 1: 208; Pricing 1: 1=4.41, 10=3.96, 100=3.34, 250=2.91, 500=2.76, 1000=2.33, 2500=2.21, 5000=2.13 (USD); Packaging: Cut Tape; Brand: Texas Instruments; Moisture Sensitive: Yes; Product Type: Battery Management; Standard Pack Qty: 250; Subcategory: PMIC - Power Management ICs; RoHS - Mouser: Y; Minimum Order Quantity: 1; Reeling: True; ComponentLink1URL: https://www.ti.com/lit/gpn/bq25611d; ComponentLink1Description: Data sheet; Supplier Part Number 1: 595-BQ25611DRTWT; Mount: Surface Mount
footprint RTW0024 (WQFN24 Plastic Quad Flatpack No-Lead)
pins: 1 VAC (in), 2 D+ (in), 3 D- (in), 4 STAT (oc), 5 SCL (in), 6 SDA (io), 7 ~{INT} (oc), 8 NC, 9 ~{CE} (in), 10 BATSNS (in), 11 TS (in), 12 ~{QON} (in), 13 BAT (power), 14 BAT (power), 15 SYS (power), 16 SYS (power), 17 GND (power), 18 GND (power), 19 SW (power), 20 SW (power), 21 BTST (power), 22 REGN (power), 23 PMID (power), 24 VBUS (power), 25 EPAD (power)

## IC CP2102N USB TO UART BRIDGE QFN28
designator U?, comment CP2102N-A02-GQFN28R
USB Bridge, USB to UART USB 2.0 UART Interface 28-QFN (5x5); Manufacturer: Silicon Labs; Supplier 1: Digi-Key; Manufacturer Part Number: CP2102N-A02-GQFN28R; Stock 1: 3461; Pricing 1: 1=1.4, 25=1.3516, 100=1.2995 (USD); Supplier Part Number 1: 336-5890-1-ND; ComponentLink1URL: https://4donline.ihs.com/images/VipMasterIC/IC/SILC/SILC-S-A0007770867/SILC-S-A0007770867-1.pdf?hkey=6D3A4C79FDBF58556ACFDE234799DDF0&src-supplier=Farnell; ComponentLink1Description: https://4donline.ihs.com/images/VipMasterIC/IC/SILC/SILC-S-A0007770867/SILC-S-A0007770867-1.pdf?hkey=6D3A4C79FDBF58556ACFDE234799DDF0&src-supplier=Farnell; Mount: Surface Mount
footprint QFN28_5X5
pins: 1 DCD (in), 2 RI/CLK (io), 3 GND (power), 4 D+ (io), 5 D- (io), 6 VDD (power), 7 VREGIN (power), 8 VBUS (in), 9 ~{RSTb} (in), 10 NC, 11 ~{SUSPENDb} (out), 12 SUSPEND (out), 13 CHREN (out), 14 CHR1 (out), 15 CHR0 (out), 16 GPIO.3/WAKEUP (io), 17 GPIO.2/RS485 (io), 18 GPIO.1/RXT (io), 19 GPIO.0/TXT (io), 20 GPIO.6 (io), 21 GPIO.5 (io), 22 GPIO.4 (io), 23 CTS (in), 24 RTS (out), 25 RXD (in), 26 TXD (out), 27 DSR (in), 28 DTR (out), 29 GND (power)

## IC LDLN025 REG LINEAR 1.8V 250MA 4DFN
designator U?, comment LDLN025PU18R
Linear Voltage Regulator IC 1 Output 250mA 4-DFN (1x1); Manufacturer: STMicroelectronics; Dropout Voltage: 250mV; Number of Regulators: 1; Quiescent Current: 25uA; Output Type: Fixed; Output Configuration: Positive; Max Input Voltage: 5.5V; Min Output Voltage: 1.8V; Max Supply Current: 425uA; Power Supply Rejection Ratio (PSRR): 60dB; Supplier 1: Digi-Key; Manufacturer Part Number: LDLN025PU18R; Stock 1: 4322; Pricing 1: 1=0.61, 10=0.525, 25=0.49, 100=0.364, 250=0.308, 500=0.294, 1000=0.217, 2500=0.203 (USD); Mount: Surface Mount; Min Operating Temperature: -40°C; Max Operating Temperature: 125°C; Packaging: Tape and Reel; Output Current: 250mA; ComponentLink1URL: http://www.st.com/content/ccc/resource/technical/document/datasheet/group3/a7/8d/6a/ac/ed/d0/4f/f4/DM00312779/files/DM00312779.pdf/jcr:content/translations/en.DM00312779.pdf?src-supplier=Digi-Key; ComponentLink1Description: http://www.st.com/content/ccc/resource/technical/document/datasheet/group3/a7/8d/6a/ac/ed/d0/4f/f4/DM00312779/files/DM00312779.pdf/jcr:content/translations/en.DM00312779.pdf?src-supplier=Digi-Key; Supplier Part Number 1: 497-17000-1-ND; Case/Package: DFN
footprint DFN65P100X40-4N (Footprint not found)
pins: 1 VOUT (power), 2 GND (power), 3 EN (in), 4 VIN (power), 5 EPAD (power)

## IC MT25QL256 FLASH 256M SPI 133MHZ 8WPDFN
designator U?, comment MT25QL256ABA1EW9-0SIT TR
256Mb, 3V, Multiple I/O Serial Flash Memory, Quad/Dual; Manufacturer: Micron Technology; Memory Type: Non-Volatile,FLASH; Frequency: 133MHz; Manufacturer Part Number: MT25QL256ABA1EW9-0SIT TR; Supplier 1: Digi-Key; Stock 1: 3545; Pricing 1: 1=3.45, 10=3.129, 25=3.0612, 50=3.0442, 100=2.7301, 250=2.72, 500=2.6198, 1000=2.4908 (USD); Mount: Surface Mount; Min Operating Temperature: -40°C; Max Operating Temperature: 85°C; Packaging: Cut Tape; Memory Size: 256Mb; ComponentLink1URL: https://www.micron.com/~/media/documents/products/data-sheet/nor-flash/serial-nor/mt25q/die-rev-a/mt25q_qljs_l_256_aba_0.pdf?src-supplier=Digi-Key; ComponentLink1Description: https://www.micron.com/~/media/documents/products/data-sheet/nor-flash/serial-nor/mt25q/die-rev-a/mt25q_qljs_l_256_aba_0.pdf?src-supplier=Digi-Key; Supplier Part Number 1: 557-1984-1-ND
footprint W-PDFN-8_8X6_P127
pins: 1 S# (in), 2 DQ1/DO, 3 DQ2/W#, 4 VSS, 5 DQ0/DI, 6 C (in), 7 DQ3/HOLD#, 8 VCC, 9 EPAD

## IC OPA171 OPAMP GP 1 CIRCUIT SOT-23-5
designator U?, comment OPA171AIDBVR
General Purpose Amplifier 1 Circuit Rail-to-Rail SOT-23-5; Manufacturer: Texas Instruments; Min Supply Voltage: 2.7V; Max Supply Voltage: 36V; Min Dual Supply Voltage: 1.35V; Max Dual Supply Voltage: 18V; Voltage Gain: 130dB; Output Current: 25mA; Nominal Supply Current: 475uA; Unity Gain Bandwidth Product: 3MHz; Common Mode Rejection Ratio: 104dB; Number of Channels: 1; Slew Rate: 1.5V/µs; Max I/O Voltage: 1.8mV; Input Bias Current: 15pA; Input Offset Voltage (Vos): 250uV; Output Current per Channel: 35mA; Power Supply Rejection Ratio (PSRR): 120dB; ComponentLink1URL: http://www.ti.com/lit/ds/symlink/opa171.pdf?src-supplier=Digi-Key; ComponentLink1Description: http://www.ti.com/lit/ds/symlink/opa171.pdf?src-supplier=Digi-Key; Supplier 1: Digi-Key; Manufacturer Part Number: OPA171AIDBVR; Stock 1: 126525; Pricing 1: 1=1.36, 10=1.215, 100=0.9476, 500=0.7828, 1000=0.618 (USD); Case/Package: SOT-23-5; Number of Pins: 5; Contact Plating: Gold; Min Operating Temperature: -40°C; Max Operating Temperature: 125°C; Package Quantity: 3000; Packaging: Tape and Reel; Nominal Gain Bandwidth Product: 3MHz; Number of Circuits: 1; Gain Bandwidth Product: 3MHz; Operating Supply Current: 475uA; Number of Elements: 1; Bandwidth: 3MHz; Number of Amplifiers: 1; Operating Supply Voltage: 18V; Radiation Hardening: No; REACH SVHC: No SVHC; Lead Free: Lead Free; Supplier Part Number 1: 296-37698-1-ND; Mount: Surface Mount
footprint SOT-23-5
pins: 1 OUT (out), 2 V- (power), 3 IN+ (in), 4 IN- (in), 5 V+ (power)

## IC PCA9545A I2C SW 4CH W/RESET 20VQFN
designator U?, comment PCA9545ARGYR
4-Channel I2C And SMBus Multiplexer With Interrupt Logic And Reset Functions; Manufacturer: Texas Instruments; Max Supply Voltage: 5.5V; Min Supply Voltage: 2.3V; Propagation Delay: 1ns; Number of Channels: 4; Number of Outputs: 1; Bandwidth: 400kHz; Max Power Dissipation: 400mW; On-State Resistance: 45R; Operating Supply Current: 8uA; Throw Configuration: 4PST; Supplier 1: Digi-Key; Manufacturer Part Number: PCA9545ARGYR; Stock 1: 3156; Pricing 1: 1=1.95, 10=1.749, 25=1.65, 100=1.32, 250=1.155, 500=1.122, 1000=0.891 (USD); Number of Pins: 20; Min Operating Temperature: -40°C; Max Operating Temperature: 85°C; Packaging: Tape and Reel; Package Quantity: 1; Logic Function: Multiplexer; Number of Inputs: 4; Radiation Hardening: No; Lead Free: Lead Free; ComponentLink1URL: http://www.ti.com/lit/ds/symlink/pca9545a.pdf?src-supplier=Digi-Key; ComponentLink1Description: http://www.ti.com/lit/ds/symlink/pca9545a.pdf?src-supplier=Digi-Key; ComponentLink2URL: http://www.ti.com/general/docs/lit/getliterature.tsp?genericPartNumber=PCA9545A&&fileType=pdf&src-supplier=Avnet; ComponentLink2Description: http://www.ti.com/general/docs/lit/getliterature.tsp?genericPartNumber=PCA9545A&&fileType=pdf&src-supplier=Avnet; Supplier Part Number 1: 296-20964-1-ND; Case/Package: VQFN EP; Weight: 0.001517oz; Power Dissipation: 400mW; Max Frequency: 400kHz; Number of Circuits: 4; ComponentLink3URL: https://www.verical.com/server-webapp/html/getDatasheet?partID=164589&src-supplier=Verical; ComponentLink3Description: https://www.verical.com/server-webapp/html/getDatasheet?partID=164589&src-supplier=Verical; ComponentLink4URL: http://www.produktinfo.conrad.com/datenblaetter/1100000-1199999/001188020-da-01-en-IC_I2C_SMBUS_SW_PCA9545ARGYR_VQFN_20_TID.pdf?src-supplier=Conrad; ComponentLink4Description: http://www.produktinfo.conrad.com/datenblaetter/1100000-1199999/001188020-da-01-en-IC_I2C_SMBUS_SW_PCA9545ARGYR_VQFN_20_TID.pdf?src-supplier=Conrad; Mount: Surface Mount
footprint RGY20_3P05X2P05
pins: 1 A0 (in), 2 A1 (in), 3 ~{RESET} (in), 4 ~{INT0} (in), 5 SD0 (io), 6 SC0 (io), 7 ~{INT1} (in), 8 SD1 (io), 9 SC1 (io), 10 GND (power), 11 ~{INT2} (in), 12 SD2 (io), 13 SC2 (io), 14 ~{INT3} (in), 15 SD3 (io), 16 SC3 (io), 17 ~{INT} (out), 18 SCL (io), 19 SDA (io), 20 VCC (power), 21 EPAD (power)

## IC PCA9632TK,118 LED DRVR LIN DIM 25MA 8HVSON
designator U?, comment PCA9632TK,118  7B-I2C_ADDR: 0b1100010 (0x62)
LED Driver IC 4 Output Power Switch  PWM Dimming 25mA 8-HVSON (3x3); Manufacturer: NXP Semiconductors; Max Supply Voltage: 5.5V; Min Supply Voltage: 2.3V; Nominal Supply Current: 150uA; Max Power Dissipation: 400mW; Number of Outputs: 4; Frequency: 400kHz; Max Supply Current: 108uA; Low Level Output Current: 100mA; Supplier 1: Digi-Key; Supplier Part Number 1: 568-8715-1-ND; ComponentLink1Description: http://www.nxp.com/documents/data_sheet/PCA9632.pdf?src-supplier=Digi-Key; ComponentLink1URL: http://www.nxp.com/documents/data_sheet/PCA9632.pdf?src-supplier=Digi-Key; ComponentLink2Description: https://www.nxp.com/docs/en/brochure/75016950.pdf?src-supplier=Digi-Key; ComponentLink2URL: https://www.nxp.com/docs/en/brochure/75016950.pdf?src-supplier=Digi-Key; ComponentLink3Description: http://www.classic.nxp.com/documents/data_sheet/PCA9632.pdf?src-supplier=Avnet+Europe; ComponentLink3URL: http://www.classic.nxp.com/documents/data_sheet/PCA9632.pdf?src-supplier=Avnet+Europe; Manufacturer Part Number: PCA9632TK,118; Stock 1: 2394; Pricing 1: 1=1.33, 10=1.192, 25=1.1312, 100=0.8686, 250=0.7676, 500=0.7272, 1000=0.5656, 2500=0.5373 (USD); Mount: Surface Mount; Number of Pins: 8; Contact Plating: Gold; Min Operating Temperature: -40°C; Max Operating Temperature: 85°C; Packaging: Tape and Reel; Package Quantity: 1; Output Voltage: 5.5V; Power Dissipation: 400mW; Number of Segments: 4; Radiation Hardening: No; Lead Free: Lead Free
footprint SOT908-1
pins: 1 LED0 (out), 2 LED1 (out), 3 LED2 (out), 4 LED3 (out), 5 VSS (power), 6 SCL (in), 7 SDA (io), 8 VDD (power), 9 EP (power)

## IC PCAL9539AHF,128 I/O EXPANDER 16BIT 24HWQFN
designator U?, comment PCAL9539AHF,128  7B_I2C_ADDR: 0b11101XX (0x74..0x77)
I/O Expander with interrupt and reset 16 I²C 400kHz 24-HWQFN (4x4); Manufacturer: NXP Semiconductors; Input Voltage: 1.65 V to 5.5 V; Output Current: 25 mA; Output Voltage: 6.5 V; Logic Type: I2C, SMBus; Maximum Clock Frequency: 100 kHz; Operating Supply Current: 160 mA; Pd - Power Dissipation: 200 mW; Supplier 1: Mouser; Supplier Part Number 1: 771-PCAL9539AHF,128; ComponentLink1Description: https://www.mouser.com/datasheet/2/302/PCAL9539A-1127729.pdf; ComponentLink1URL: https://www.mouser.com/datasheet/2/302/PCAL9539A-1127729.pdf; Manufacturer Part Number: PCAL9539AHF,128; RoHS: RoHS Compliant; Category: Interface - I/O Expanders; Stock 1: 4265; Pricing 1: 1=2.11, 10=1.79, 100=1.25, 500=1.21, 1000=0.968, 2500=0.932, 6000=0.896 (USD); Package / Case: HWQFN-24; Packaging: Cut Tape; Product: I/O Expanders; Type: I/O Expander; Brand: NXP Semiconductors; Mounting Style: SMD/SMT; Maximum Operating Temperature: + 85 C; Minimum Operating Temperature: - 40 C; Operating Supply Voltage: 1.65 V to 5.5 V; Product Type: I/O Expanders; Standard Pack Qty: 6000; Subcategory: Interface ICs; RoHS - Mouser: Y; Minimum Order Quantity: 1; Reeling: True; Mount: Surface Mount
footprint QFN-EP 24
pins: 1 P0_0 (io), 2 P0_1 (io), 3 P0_2 (io), 4 P0_3 (io), 5 P0_4 (io), 6 P0_5 (io), 7 P0_6 (io), 8 P0_7 (io), 9 GND (power), 10 P1_0 (io), 11 P1_1 (io), 12 P1_2 (io), 13 P1_3 (io), 14 P1_4 (io), 15 P1_5 (io), 16 P1_6 (io), 17 P1_7 (io), 18 A0 (in), 19 SCL (in), 20 SDA (io), 21 VDD (power), 22 ~{INT} (oc), 23 A1 (in), 24 ~{RESET} (in), EP (power)

## IC RV-3028 RTC CLK/CALENDAR I2C 8-SMT
designator U?, comment RV-3028-C7 32.768KHZ 1PPM-TA-QC
2-Bit Bidirectional Voltage-Level Translator for Open-Drain Application; Manufacturer: Micro Crystal; Supplier 1: Digi-Key; Manufacturer Part Number: RV-3028-C7 32.768KHZ 1PPM-TA-QC; Stock 1: 4121; Pricing 1: 1=2.71, 10=2.435, 25=2.3016, 100=1.9949, 250=1.8926, 500=1.6982 (USD); Supplier Part Number 1: 2195-RV-3028-C732.768KHZ1PPM-TA-QCCT-ND; Mount: Surface Mount
footprint 8-SON (3.2x1.5) (8-WCDFN)
pins: 1 CLKOUT (out), 2 ~{INT} (out), 3 SCL (in), 4 SDA (io), 5 VSS (power), 6 V_BKUP (power), 7 VDD (power), 8 EVI (in)

## IC STM32G473RETx LQFP64
designator U?, comment STM32G473RET6
ARM® Cortex®-M4 STM32G4 Microcontroller IC 32-Bit 170MHz 512KB (512K x 8) FLASH 64-LQFP (10x10); Manufacturer: STMicroelectronics; Data RAM Size: 128 kB; Data RAM Type: SRAM; Interface Type: I2C, SPI, UART, USART, USB; Number of I/Os: 52 I/O; ADC Resolution: 12 bit; Analog Supply Voltage: 1.62 V to 3.6 V; Core: ARM Cortex M4; Data Bus Width: 32 bit; I/O Voltage: 5 V; Number of ADC Channels: 26 Channel; Operating Supply Voltage: 1.71 V to 3.6 V; Supply Voltage - Max: 3.6 V; Supply Voltage - Min: 1.71 V; Watchdog Timers: Watchdog Timer, Windowed; Product Status: New Product; Supplier 1: Mouser; Manufacturer Part Number: STM32G473RET6; RoHS: RoHS Compliant; Category: ARM Microcontrollers - MCU; Stock 1: 313; Pricing 1: 1=7.73, 10=6.99, 25=6.66, 100=5.79, 250=5.53, 500=5.04, 1000=4.54, 2500=4.22 (USD); Package / Case: LQFP-64; Packaging: Tray; Product: MCU+FPU; Program Memory Type: Flash; Series: STM32G473RE; Brand: STMicroelectronics; Mounting Style: SMD/SMT; Program Memory Size: 512 kB; DAC Resolution: 12 bit; Maximum Clock Frequency: 170 MHz; Maximum Operating Temperature: + 85 C; Minimum Operating Temperature: - 40 C; Moisture Sensitive: Yes; Processor Series: STM32G473; Product Type: ARM Microcontrollers - MCU; Standard Pack Qty: 960; Subcategory: Microcontrollers - MCU; Tradename: STM32; RoHS - Mouser: Y; Minimum Order Quantity: 1; Reeling: False; ComponentLink1URL: https://www.mouser.com/datasheet/2/389/dm00528822-1799294.pdf; ComponentLink1Description: https://www.mouser.com/datasheet/2/389/dm00528822-1799294.pdf; Supplier 2: Digi-Key; Supplier Part Number 1: 511-STM32G473RET6; Supplier Part Number 2: 497-STM32G473RET6-ND; Mount: Surface Mount
footprint LQFP64-10x10mm
part A pins: 2 PC13 (io), 3 PC14-OSC32_IN (io), 4 PC15-OSC32_OUT (io), 5 PF0-OSC_IN (io), 6 PF1-OSC_OUT (io), 7 PG10-NRST (io), 8 PC0 (io), 9 PC1 (io), 10 PC2 (io), 11 PC3 (io), 12 PA0 (io), 13 PA1 (io), 14 PA2 (io), 17 PA3 (io), 18 PA4 (io), 19 PA5 (io), 20 PA6 (io), 21 PA7 (io), 22 PC4 (io), 23 PC5 (io), 24 PB0 (io), 25 PB1 (io), 26 PB2 (io), 30 PB10 (io), 33 PB11 (io), 34 PB12 (io), 35 PB13 (io), 36 PB14 (io), 37 PB15 (io), 38 PC6 (io), 39 PC7 (io), 40 PC8 (io), 41 PC9 (io), 42 PA8 (io), 43 PA9 (io), 44 PA10 (io), 45 PA11 (io), 46 PA12 (io), 49 PA13 (io), 50 PA14 (io), 51 PA15 (io), 52 PC10 (io), 53 PC11 (io), 54 PC12 (io), 55 PD2 (io), 56 PB3 (io), 57 PB4 (io), 58 PB5 (io), 59 PB6 (io), 60 PB7 (io), 61 PB8-BOOT0 (io), 62 PB9 (io)
part B pins: 1 VBAT (power), 15 VSS (power), 16 VDD (power), 27 VSSA (power), 28 VREF+ (power), 29 VDDA (power), 31 VSS (power), 32 VDD (power), 47 VSS (power), 48 VDD (power), 63 VSS (power), 64 VDD (power)